# Altium schematic symbol library 10BQ040.SchLib: 2 symbols
Pins are listed as number, name and electrical type; pins without a type are passive.

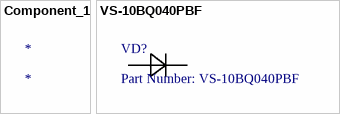
[diagram p0: symbols Component_1 to VS-10BQ040PBF]

## Component_1
designator *

## VS-10BQ040PBF
designator VD?, comment Part Number: VS-10BQ040PBF
No Description Available; Vendor: Vishay; Built_By: EMA_UL_Team; Type: DEV; Manufacturer_Part_Number: VS-10BQ040PBF; Copyright: Copyright (C) 2018 Accelerated Designs. All rights reserved; RefDes: RefDes; Value: Value
footprint DIODE_SMB
pins: 1, 2